# Altium footprint library power.PcbLib: 35 footprints (part 1 of 3)
Each footprint in its own frame and in the unit in brackets; x right, y up, seen from the top. Pads: shape width x height; smd on the part's side, far side on the other; paste and mask are expansions set on the pad; w line width, h text height; cw(c..) or ccw(c..) is an arc to the next point about the centre after c.
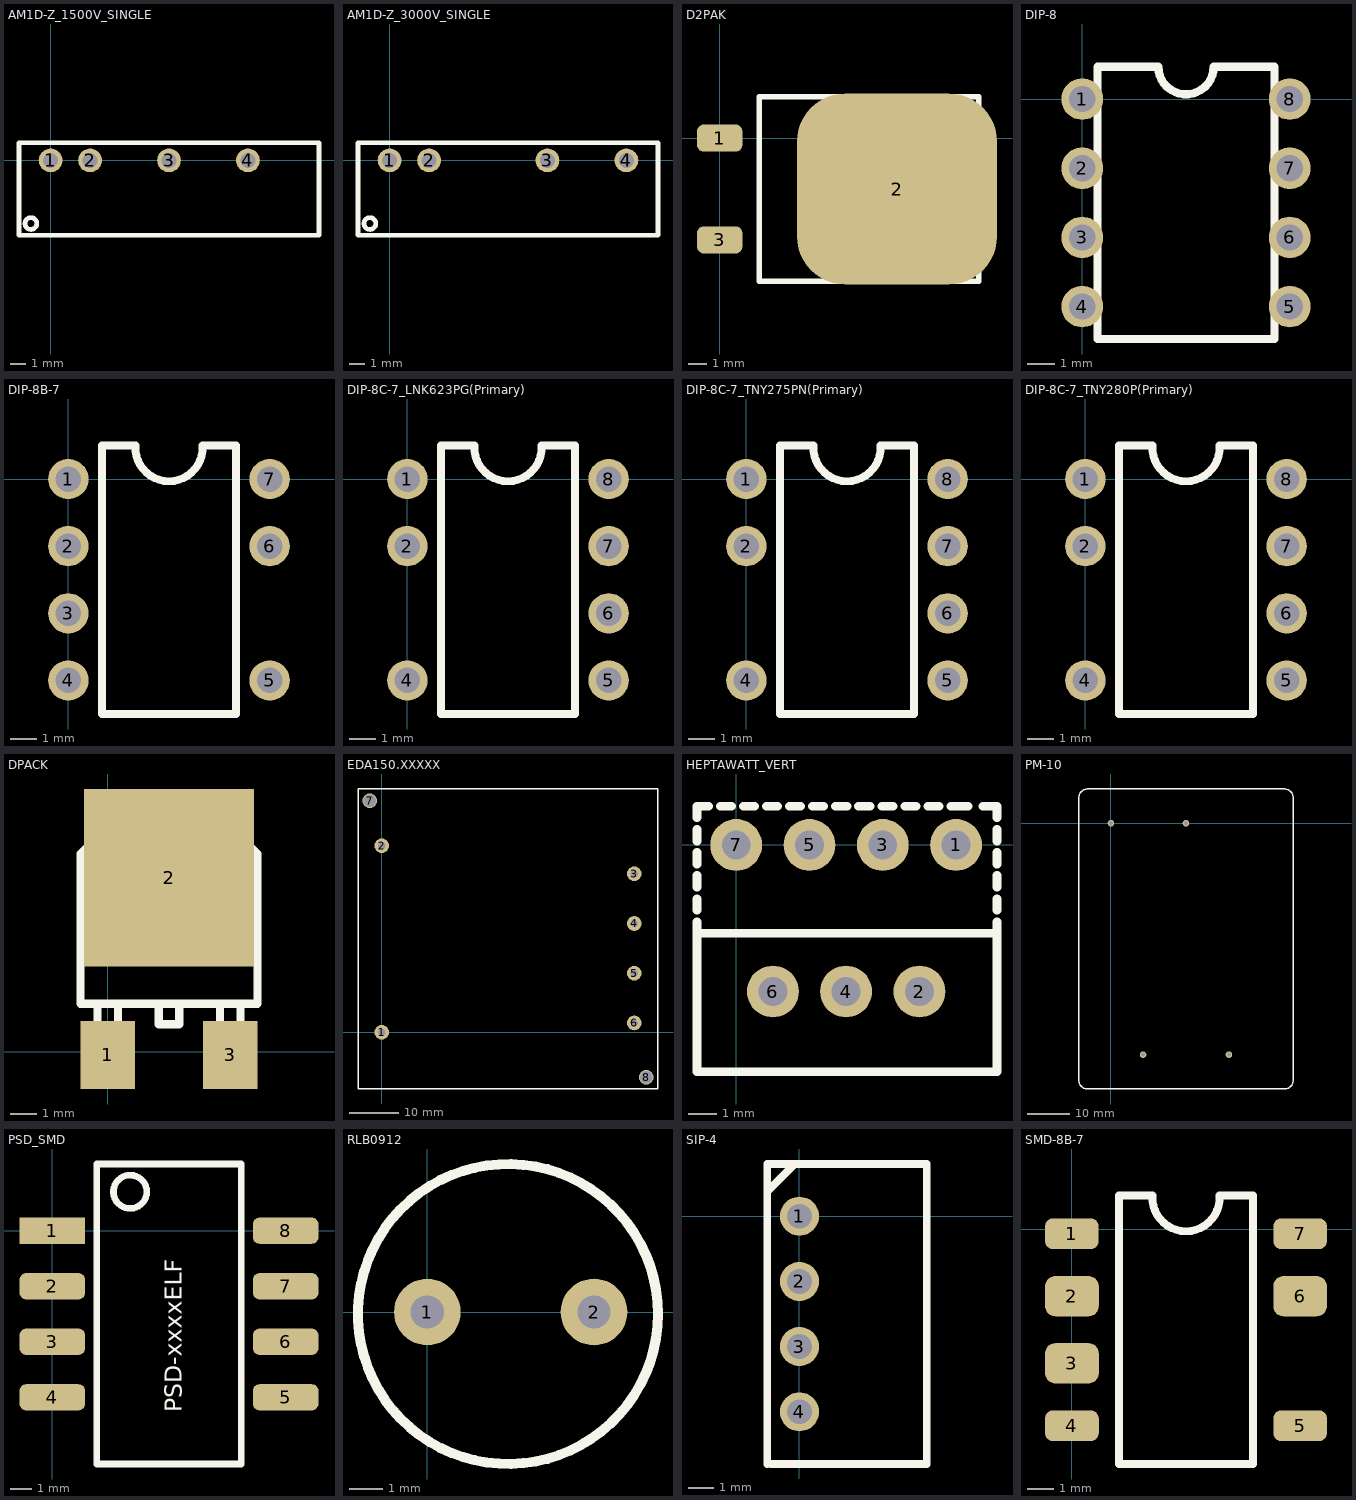
[diagram p0: the footprints below, top view; thin cyan lines are the x and y axes]

## AM1D-Z_1500V_SINGLE [mil]
pads (4):
  round 60 hole 38: 1(0,0) 2(100,0) 3(300,0) 4(500,0)
Top Overlay:
  circle w11.81: c-50,-160 r15
  lines w11.81: -80,-190 -80,45 680,45 680,-190 -80,-190

## AM1D-Z_3000V_SINGLE [mil]
pads (4):
  round 60 hole 38: 1(0,0) 2(100,0) 3(400,0) 4(600,0)
Top Overlay:
  circle w11.81: c-50,-160 r15
  lines w11.81: -80,-190 680,-190 680,45 -80,45 -80,-190

## D2PAK [mm]
pads (3):
  rrect50% 2.5x1.5 smd: 1(0,0) 3(0,-5.6)
  rrect50% 11x10.5 smd: 2(9.751,-2.8)
Top Overlay:
  lines w0.3: 2.171,-7.88 14.236,-7.88 14.236,2.28 2.171,2.28 2.171,-7.88

## DIP-8 [mil]
pads (8):
  round 60 hole 38: 1(0,0) 2(0,-100) 3(0,-200) 4(0,-300) 5(300,-300) 6(300,-200) 7(300,-100) 8(300,0)
Top Overlay:
  lines w11.81: 22.05,-346.85 277.95,-346.85 277.95,46.85 190,46.85 cw(c150,46.85) 110,46.85 22.05,46.85 22.05,-346.85

## DIP-8B-7 [mil]
pads (7):
  round 60 hole 38: 1(0,0) 2(0,-100) 3(0,-200) 4(0,-300) 5(300,-300) 6(300,-100) 7(300,0)
Top Overlay:
  lines w11.81: 50,-350 50,50 100,50 ccw(c150,46.85) 200,50 250,50 250,-350 50,-350

## DIP-8C-7_LNK623PG(Primary) [mil]
pads (7):
  round 60 hole 38: 1(0,0) 2(0,-100) 4(0,-300) 5(300,-300) 6(300,-200) 7(300,-100) 8(300,0)
Top Overlay:
  lines w11.81: 50,-350 250,-350 250,50 200,50 cw(c150,46.85) 100,50 50,50 50,-350

## DIP-8C-7_TNY275PN(Primary) [mil]
pads (7):
  round 60 hole 38: 1(0,0) 2(0,-100) 4(0,-300) 5(300,-300) 6(300,-200) 7(300,-100) 8(300,0)
Top Overlay:
  lines w11.81: 50,-350 250,-350 250,50 200,50 cw(c150,46.85) 100,50 50,50 50,-350

## DIP-8C-7_TNY280P(Primary) [mil]
pads (7):
  round 60 hole 38: 1(0,0) 2(0,-100) 4(0,-300) 5(300,-300) 6(300,-200) 7(300,-100) 8(300,0)
Top Overlay:
  lines w11.81: 50,-350 50,50 100,50 ccw(c150,46.85) 200,50 250,50 250,-350 50,-350

## DPACK [mil]
pads (3):
  rect 80x100 smd: 1(0,-5) 3(180,-5)
  rect 250x260 smd: 2(90,255)
Top Overlay:
  lines w11.81: -15,70 -15,-40 15,-40 15,70 ; 75,70 75,40 105,40 105,70 ; 165,70 165,-40 195,-40 195,70 ; -20,310 -20,340 0,360 180,360 200,340 200,310 ; -20,310 -40,290 -40,70 220,70 220,290 200,310 ; -20,310 200,310

## EDA150.XXXXX [mm]
pads (8):
  round 3 hole 1.5: 1(0,0) 2(0,38.1) 3(51.6,32.38) 4(51.6,22.22) 5(51.6,12.06) 6(51.6,1.9)
  round 3 hole 2.5: 7(-2.45,47.3) 8(54.05,-9.2)
Top Overlay:
  lines w0.3: -4.85,-11.6 56.45,-11.6 56.45,49.7 -4.85,49.7 -4.85,-11.6

## HEPTAWATT_VERT [mm]
pads (7):
  round 1.8 hole 1: 1(7.62,0) 2(6.35,-5.08) 3(5.08,0) 4(3.81,-5.08) 5(2.54,0) 6(1.27,-5.08) 7(0,0)
Top Overlay:
  lines w0.3: -1.36,-2.66 -1.36,-3.06 ; -1.36,-2.26 -1.36,-1.86 ; -1.36,-1.46 -1.36,-1.06 ; -1.36,-0.66 -1.36,-0.26 ; -1.36,0.14 -1.36,0.54 ; -1.36,0.94 -1.36,1.34 -0.96,1.34 ; -0.56,1.34 -0.16,1.34 ; 0.24,1.34 0.64,1.34 ; 1.04,1.34 1.44,1.34 ; 1.84,1.34 2.24,1.34 ; 2.64,1.34 3.04,1.34 ; 3.44,1.34 3.84,1.34 ; 4.24,1.34 4.64,1.34 ; 5.04,1.34 5.44,1.34 ; 5.84,1.34 6.24,1.34 ; 6.64,1.34 7.04,1.34 ; 7.44,1.34 8.04,1.34 ; 8.54,1.34 9.04,1.34 9.04,0.94 ; 9.04,-2.66 9.04,-3.06 ; 9.04,-2.26 9.04,-1.86 ; 9.04,-1.46 9.04,-1.06 ; 9.04,-0.66 9.04,-0.26 ; 9.04,0.14 9.04,0.54 ; -1.36,-3.06 9.04,-3.06 ; -1.36,-3.06 -1.36,-7.86 9.04,-7.86 9.04,-3.06

## PM-10 [mil]
pads (4):
  round 60 hole 38: 1(0.39,0) 2(689.37,0) 3(295.67,-2125.98) 4(1084.25,-2125.59)
Top Overlay:
  lines w11.81: -294.16,235.83 -294.16,-2362.6 ccw(c-215.42,-2362.6) -215.55,-2441.34 ; -294.16,235.96 cw(c-215.42,235.83) -215.42,314.57 1595.61,314.57 cw(c1595.61,235.83) 1674.35,235.83 1674.35,-2362.6 cw(c1595.61,-2362.6) 1595.47,-2441.34 ; -215.42,-2441.34 1595.61,-2441.34

## PSD_SMD [mm]
pads (8):
  rect 3x1.2 smd: 1(0,0)
  rrect50% 3x1.2 smd: 2(0,-2.54) 3(0,-5.08) 4(0,-7.62) 5(10.668,-7.62) 6(10.668,-5.08) 7(10.668,-2.54) 8(10.668,0)
Top Overlay:
  circle w0.3: c3.556,1.778 r0.762
  lines w0.3: 2.032,-10.668 8.636,-10.668 8.636,3.048 2.032,3.048 2.032,-10.668
  text "PSD-xxxxELF" at 5.924,-8.306 h0.78

## RLB0912 [mm]
pads (2):
  round 2 hole 1 unplated: 1(0,0) 2(5,0)
Top Overlay:
  circle w0.3: c2.42,-0.06 r4.5

## SIP-4 [mil]
pads (4):
  round 60 hole 38: 1(0,0) 2(0,-100) 3(0,-200) 4(0,-300)
Top Overlay:
  lines w11.81: -49.21,-379.92 -49.21,79.92 195,80 195,-380 -44.21,-379.92 ; -47.48,40 -7.48,80

## SMD-8B-7 [mil]
pads (7):
  rrect50% 80x45.98 smd: 1(-0.04,-6.97) 4(0,-292.99) 5(340,-292.99) 7(340,-7.01)
  rrect50% 80x60 smd: 2(0,-100) 3(0,-200) 6(340,-100)
Top Overlay:
  lines w11.81: 70,-350 270,-350 270,50 220,50 cw(c170,46.85) 120,50 70,50 70,-350